# Altium integrated library TI Current-Sense Amplifiers.IntLib: 3 symbols
Pins are listed as number, name and electrical type; pins without a type are passive.

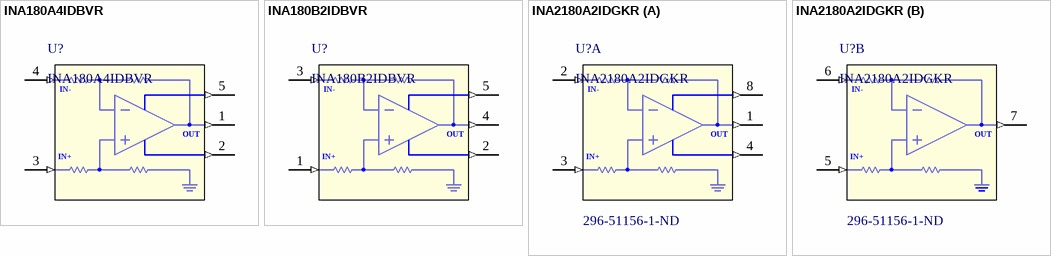
[diagram p0: symbols INA180A4IDBVR to INA2180A2IDGKR]

## INA180A4IDBVR
designator U?
26V, 350kHz current sense amplifier 5-SOT-23 -40 to 125; Manufacturer: Texas Instruments; Number of Circuits: 1; Slew Rate: 2V/µs; Input Bias Current: 100nA; Input Offset Voltage (Vos): 100uV; Operating Supply Current: 260uA; Supplier: Digikey; Supplier Part Number: 296-47655-1-ND; Manufacturer Part Number: INA180A4IDBVR; RoHS: Yes; Category: Amplifiers - Op Amps, Buffer, Instrumentation; Stock: 14141; Pricing: 1=0,4, 10=0,341, 25=0,318, 100=0,2545, 250=0,23632, 500=0,19998, 1000=0,15453 (USD); Mounting Technology: Surface Mount; Case/Package: SOT-23-5; Min Operating Temperature: -40°C; Max Operating Temperature: 125°C; Packaging: Tape and Reel; -3db Bandwidth: 350kHz; Series: -; RoHS Compliant: Yes; ComponentLink1URL: http://www.ti.com/lit/ds/symlink/ina180.pdf?src-supplier=Digikey; ComponentLink1Description: http://www.ti.com/lit/ds/symlink/ina180.pdf?src-supplier=Digikey; ComponentLink2URL: http://www.ti.com/general/docs/suppproductinfo.tsp?distId=10&amp;gotoUrl=http%3A%2F%2Fwww.ti.com%2Flit%2Fgpn%2Fina180&src-supplier=Digikey; ComponentLink2Description: http://www.ti.com/general/docs/suppproductinfo.tsp?distId=10&amp;gotoUrl=http%3A%2F%2Fwww.ti.com%2Flit%2Fgpn%2Fina180&src-supplier=Digikey
footprint SOT95P280X110-5N (SOT23, 5-Leads, Body 2,90x2,80mm, Pitch 0,95mm, IPC Medium Density)
pins: 1 OUT (out), 2 GND (out), 3 IN+ (in), 4 IN- (in), 5 VS (out)

## INA180B2IDBVR
designator U?
26V, 350kHz current sense amplifier 5-SOT-23 -40 to 125; Manufacturer: Texas Instruments; Number of Circuits: 1; Slew Rate: 2V/µs; Input Bias Current: 100nA; Input Offset Voltage (Vos): 100uV; Operating Supply Current: 260uA; Supplier: Digikey; Supplier Part Number: 296-48131-1-ND; Manufacturer Part Number: INA180B2IDBVR; RoHS: Yes; Category: Amplifiers - Op Amps, Buffer, Instrumentation; Stock: 12075; Pricing: 1=0,4, 10=0,341, 25=0,3184, 100=0,2547, 250=0,23648, 500=0,20012, 1000=0,15463 (USD); Mounting Technology: Surface Mount; Case/Package: SOT-23-5; Min Operating Temperature: -40°C; Max Operating Temperature: 125°C; Packaging: Cut Tape; -3db Bandwidth: 350kHz; Series: -; RoHS Compliant: Yes; ComponentLink1URL: http://www.ti.com/general/docs/suppproductinfo.tsp?distId=10&amp;gotoUrl=http%3A%2F%2Fwww.ti.com%2Flit%2Fgpn%2Fina180&src-supplier=Digikey; ComponentLink1Description: http://www.ti.com/general/docs/suppproductinfo.tsp?distId=10&amp;gotoUrl=http%3A%2F%2Fwww.ti.com%2Flit%2Fgpn%2Fina180&src-supplier=Digikey; ComponentLink2URL: http://www.ti.com/lit/ds/symlink/ina180.pdf?src-supplier=Digikey; ComponentLink2Description: http://www.ti.com/lit/ds/symlink/ina180.pdf?src-supplier=Digikey
footprint SOT95P280X110-5N (SOT23, 5-Leads, Body 2,90x2,80mm, Pitch 0,95mm, IPC Medium Density)
pins: 1 IN+1 (in), 2 OUT3 (out), 3 IN-1 (in), 4 OUT1 (out), 5 VS (out)
text: IN-; OUT; IN+

## INA2180A2IDGKR
designator U?  Supplier Part Number 1: 296-51156-1-ND
26V, dual channel, 350kHz current sense amplifier 8-VSSOP -40 to 125; Manufacturer: Texas Instruments; Number of Circuits: 2; Slew Rate: 2V/µs; Gain Bandwidth Product: 210kHz; Input Bias Current: 80uA; Input Offset Voltage (Vos): 100uV; Operating Supply Current: 355uA; Supplier 1: Digi-Key; Manufacturer Part Number: INA2180A2IDGKR; RoHS: Yes; Category: Amplifiers - Op Amps, Buffer, Instrumentation; Stock 1: 7364; Pricing 1: 1=0,61, 10=0,535, 25=0,5024, 100=0,4099, 250=0,38072, 500=0,324, 1000=0,2592 (USD); Mount: Surface Mount; Case/Package: VSSOP; Min Operating Temperature: -40°C; Max Operating Temperature: 125°C; Packaging: Cut Tape; Series: -; RoHS Compliant: Yes; ComponentLink1URL: http://www.ti.com/lit/ds/symlink/ina2180.pdf?src-supplier=Digi-Key; ComponentLink1Description: http://www.ti.com/lit/ds/symlink/ina2180.pdf?src-supplier=Digi-Key; ComponentLink2URL: http://www.ti.com/general/docs/suppproductinfo.tsp?distId=10&amp;gotoUrl=http%3A%2F%2Fwww.ti.com%2Flit%2Fgpn%2Fina2180&src-supplier=Digi-Key; ComponentLink2Description: http://www.ti.com/general/docs/suppproductinfo.tsp?distId=10&amp;gotoUrl=http%3A%2F%2Fwww.ti.com%2Flit%2Fgpn%2Fina2180&src-supplier=Digi-Key
footprint TSOP65P490X110-8N (TSOP, 8-Leads, Body 3,00x3,00mm, Pitch 0,65mm, IPC Medium Density)
part A pins: 1 OUT1 (out), 2 IN-1 (in), 3 IN+1 (in), 4 OUT3 (out), 8 VS (out)
part B pins: 5 IN+2 (in), 6 IN-2 (in), 7 OUT2 (out)
part A text: IN-; OUT; IN+
part B text: IN-; OUT; IN+